# Altium footprint library Pads.PcbLib: 16 footprints
Each footprint in its own frame and in the unit in brackets; x right, y up, seen from the top. Pads: shape width x height; smd on the part's side, far side on the other; paste and mask are expansions set on the pad; w line width, h text height; cw(c..) or ccw(c..) is an arc to the next point about the centre after c.
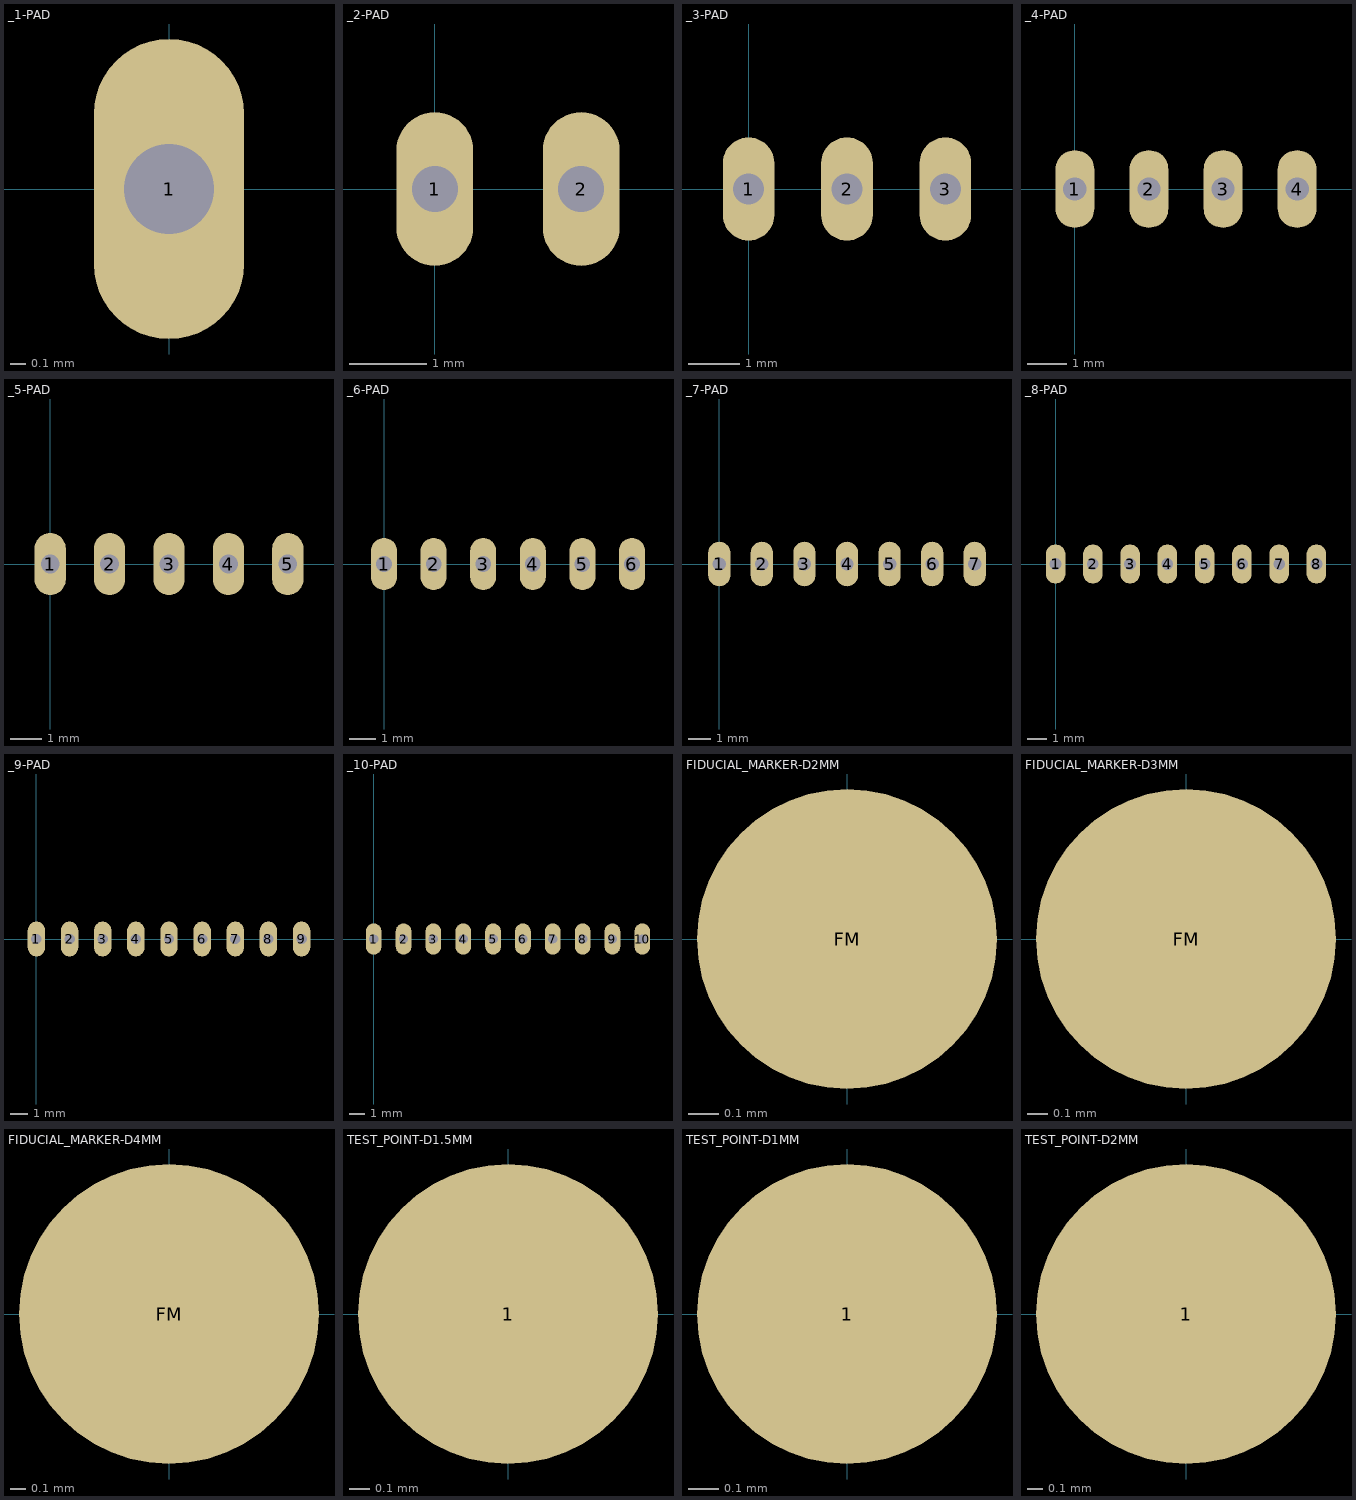
[diagram p0: the footprints below, top view; thin cyan lines are the x and y axes]

## _1-PAD [mm]
pads (1):
  oval 1x2 hole 0.6: 1(0,0)

## _2-PAD [mm]
pads (2):
  oval 1x2 hole 0.6: 1(0,0) 2(1.905,0)

## _3-PAD [mm]
pads (3):
  oval 1x2 hole 0.6: 1(0,0) 2(1.905,0) 3(3.81,0)

## _4-PAD [mm]
pads (4):
  oval 1x2 hole 0.6: 1(0,0) 2(1.905,0) 3(3.81,0) 4(5.715,0)

## _5-PAD [mm]
pads (5):
  oval 1x2 hole 0.6: 1(0,0) 2(1.905,0) 3(3.81,0) 4(5.715,0) 5(7.62,0)

## _6-PAD [mm]
pads (6):
  oval 1x2 hole 0.6: 1(0,0) 2(1.905,0) 3(3.81,0) 4(5.715,0) 5(7.62,0) 6(9.525,0)

## _7-PAD [mm]
pads (7):
  oval 1x2 hole 0.6: 1(0,0) 2(1.905,0) 3(3.81,0) 4(5.715,0) 5(7.62,0) 6(9.525,0) 7(11.43,0)

## _8-PAD [mm]
pads (8):
  oval 1x2 hole 0.6: 1(0,0) 2(1.905,0) 3(3.81,0) 4(5.715,0) 5(7.62,0) 6(9.525,0) 7(11.43,0) 8(13.335,0)

## _9-PAD [mm]
pads (9):
  oval 1x2 hole 0.6: 1(0,0) 2(1.905,0) 3(3.81,0) 4(5.715,0) 5(7.62,0) 6(9.525,0) 7(11.43,0) 8(13.335,0) 9(15.24,0)

## _10-PAD [mm]
pads (10):
  oval 1x2 hole 0.6: 1(0,0) 2(1.905,0) 3(3.81,0) 4(5.715,0) 5(7.62,0) 6(9.525,0) 7(11.43,0) 8(13.335,0) 9(15.24,0) 10(17.145,0)

## FIDUCIAL_MARKER-D2MM [mm]
pads (1):
  round 1 smd mask+0.5: FM(0,0)

## FIDUCIAL_MARKER-D3MM [mm]
pads (1):
  round 1.5 smd mask+0.75: FM(0,0)

## FIDUCIAL_MARKER-D4MM [mm]
pads (1):
  round 2 smd mask+1: FM(0,0)

## TEST_POINT-D1.5MM [mm]
pads (1):
  round 1.5 smd: 1(0,0)

## TEST_POINT-D1MM [mm]
pads (1):
  round 1 smd: 1(0,0)

## TEST_POINT-D2MM [mm]
pads (1):
  round 2 smd: 1(0,0)